# Altium footprint library PCB - POWER INDUCTORS - WURTH WE-LQS 2010.PcbLib: 1 footprints
Each footprint in its own frame and in the unit in brackets; x right, y up, seen from the top. Pads: shape width x height; smd on the part's side, far side on the other; paste and mask are expansions set on the pad; w line width, h text height; cw(c..) or ccw(c..) is an arc to the next point about the centre after c.
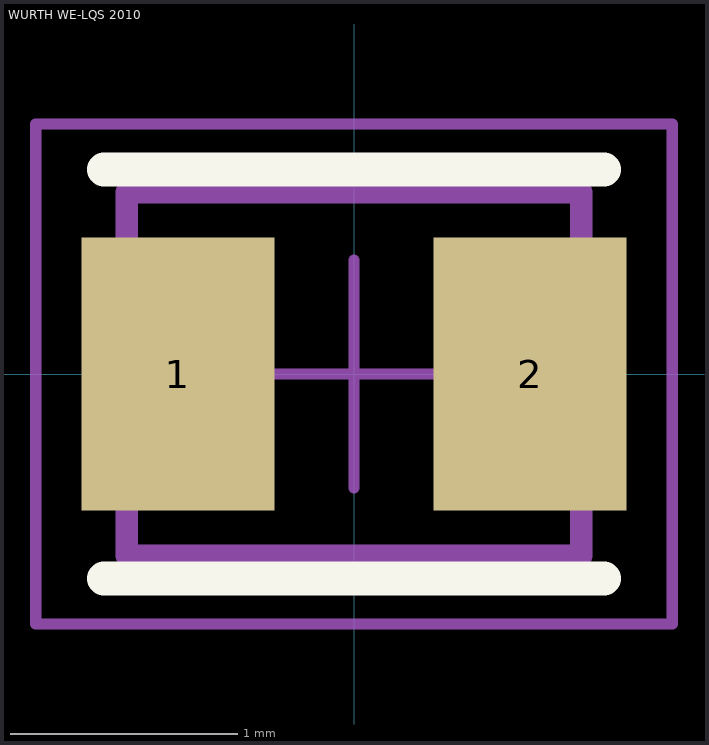
[diagram p0: the footprint, top view; thin cyan lines are the x and y axes]

## WURTH WE-LQS 2010 [mm] "SMD Power Inductor, 2-Leads, body 2x1.6mm"
height 1
pads (2):
  rect 0.85x1.2 smd: 1(-0.775,0) 2(0.775,0)
Top Overlay:
  lines w0.15: -1.1,-0.9 1.1,-0.9 ; -1.1,0.9 1.1,0.9
Top Assembly:
  lines w0.05: -0.5,0 0.5,0 ; 0,-0.5 0,0.5
Top Component Outline:
  lines w0.1: -1,-0.8 -1,0.8 ; -1,-0.8 1,-0.8 ; -1,-0.8 -1,0.8 ; -1,-0.8 1,-0.8 ; -1,0.8 1,0.8 ; -1,0.8 1,0.8 ; 1,-0.8 1,0.8 ; 1,-0.8 1,0.8
Top Courtyard:
  lines w0.05: -1.4,-1.1 -1.4,1.1 1.4,1.1 1.4,-1.1 -1.4,-1.1
3D body "IndLQS_2010.stp": height 1.01, standoff 0.01, extent -1,-0.8 1,0.824